# Altium schematic symbol library Linux_Base.SchLib: 20 symbols
Pins are listed as number, name and electrical type; pins without a type are passive.

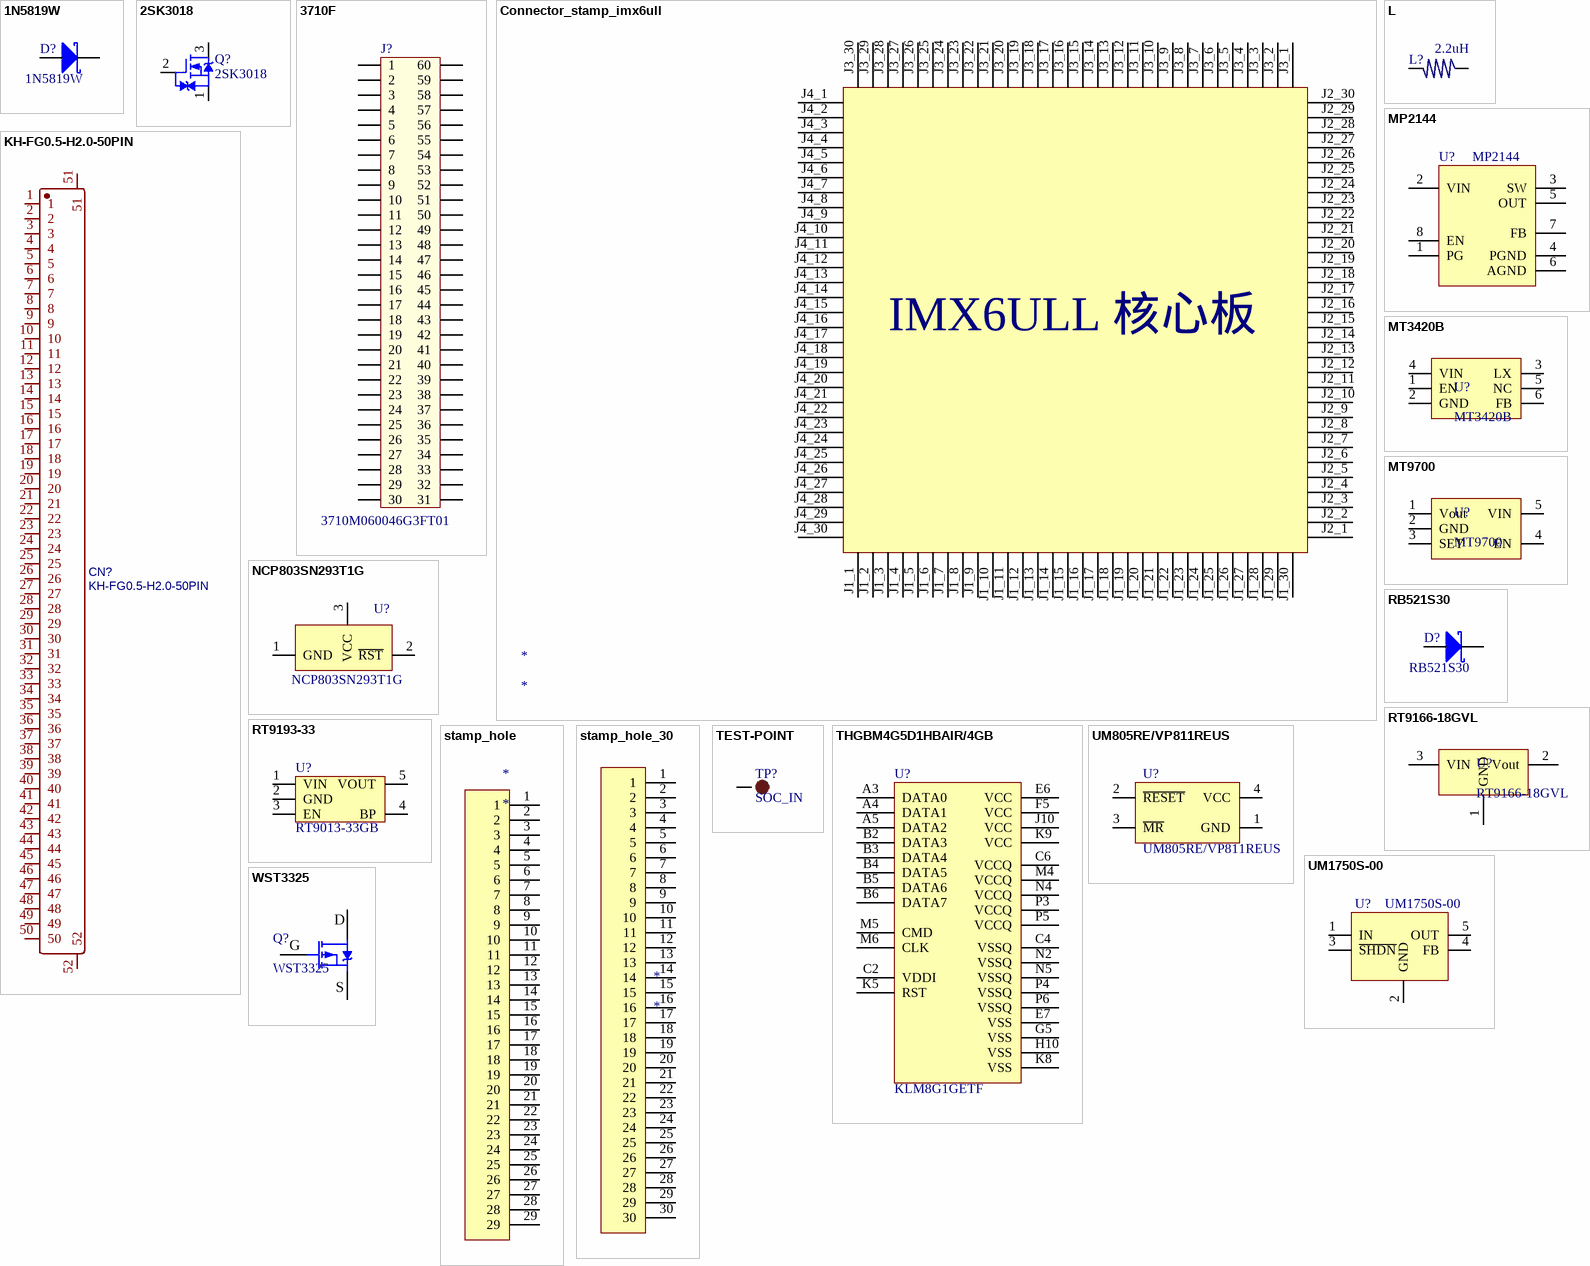
[diagram p0: symbols 1N5819W to WST3325]

## 1N5819W
designator D?
footprint SOD-523
pins: 1 A, 2 C

## 2SK3018
designator Q?
N沟场效应管  30V,0.1A; 版权归属: 源创客; BOM名称: N沟场效应管; 学习资源: www.ooocke.com
footprint SC70-3L (2x2.2x0.9mm(长宽高))
pins: 1 S, 2 G, 3 D

## 3710F
designator J?, comment 3710M060046G3FT01
3710F060046G3FT01
footprint 3710F060046G3FT01 (PIN:0.8mm;SOP;FEMALE)
pins: 1, 2, 3, 4, 5, 6, 7, 8, 9, 10, 11, 12, 13, 14, 15, 16, 17, 18, 19, 20, 21, 22, 23, 24, 25, 26, 27, 28, 29, 30, 31, 32, 33, 34, 35, 36, 37, 38, 39, 40, 41, 42, 43, 44, 45, 46, 47, 48, 49, 50, 51, 52, 53, 54, 55, 56, 57, 58, 59, 60

## Connector_stamp_imx6ull
designator *
footprint Connector_stamp_imx6ull
pins: J1_1 61, J1_2 32, J1_3 33, J1_4 34, J1_5 35, J1_6 36, J1_7 37, J1_8 38, J1_9 39, J1_10 40, J1_11 41, J1_12 42, J1_13 43, J1_14 44, J1_15 45, J1_16 46, J1_17 47, J1_18 48, J1_19 49, J1_20 50, J1_21 51, J1_22 52, J1_23 53, J1_24 54, J1_25 55, J1_26 56, J1_27 57, J1_28 58, J1_29 59, J1_30 60, J2_1 J1_31, J2_2 J1_32, J2_3 J1_33, J2_4 J1_34, J2_5 J1_35, J2_6 J1_36, J2_7 J1_37, J2_8 J1_38, J2_9 J1_39, J2_10 J1_40, J2_11 J1_41, J2_12 J1_42, J2_13 J1_43, J2_14 J1_44, J2_15 J1_45, J2_16 J1_46, J2_17 J1_47, J2_18 J1_48, J2_19 J1_49, J2_20 J1_50, J2_21 J1_51, J2_22 J1_52, J2_23 J1_53, J2_24 J1_54, J2_25 J1_55, J2_26 J1_56, J2_27 J1_57, J2_28 J1_58, J2_29 J1_59, J2_30 J1_60, J3_1 J2_31, J3_2 J2_32, J3_3 J2_33, J3_4 J2_34, J3_5 J2_35, J3_6 J2_36, J3_7 J2_37, J3_8 J2_38, J3_9 J2_39, J3_10 J2_40, J3_11 J2_41, J3_12 J2_42, J3_13 J2_43, J3_14 J2_44, J3_15 J2_45, J3_16 J2_46, J3_17 J2_47, J3_18 J2_48, J3_19 J2_49, J3_20 J2_50, J3_21 J2_51, J3_22 J2_52, J3_23 J2_53, J3_24 J2_54, J3_25 J2_55, J3_26 J2_56, J3_27 J2_57, J3_28 J2_58, J3_29 J2_59, J3_30 J2_60, J4_1 J3_31, J4_2 J3_32, J4_3 J3_33, J4_4 J3_34, J4_5 J3_35, J4_6 J3_36, J4_7 J3_37, J4_8 J3_38, J4_9 J3_39, J4_10 J3_40, J4_11 J3_41, J4_12 J3_42, J4_13 J3_43, J4_14 J3_44, J4_15 J3_45, J4_16 J3_46, J4_17 J3_47, J4_18 J3_48, J4_19 J3_49, J4_20 J3_50, J4_21 J3_51, J4_22 J3_52, J4_23 J3_53, J4_24 J3_54, J4_25 J3_55, J4_26 J3_56, J4_27 J3_57, J4_28 J3_58, J4_29 J3_59, J4_30 J3_60
text: IMX6ULL 核心板

## KH-FG0.5-H2.0-50PIN
designator CN?
BOM_Manufacturer: kinghelm(金航标); Contributor: LCSC; BOM_Supplier: LCSC; BOM_Supplier Part: C2797221; BOM_Manufacturer Part: KH-FG0.5-H2.0-50PIN; BOM_JLCPCB Part Class: Extended Part; spicePre: C; spiceSymbolName: KH-FG0.5-H2.0-50PIN
footprint FPC-SMD_KH-FG0.5-H2.0-50PIN
pins: 1, 2, 3, 4, 5, 6, 7, 8, 9, 10, 11, 12, 13, 14, 15, 16, 17, 18, 19, 20, 21, 22, 23, 24, 25, 26, 27, 28, 29, 30, 31, 32, 33, 34, 35, 36, 37, 38, 39, 40, 41, 42, 43, 44, 45, 46, 47, 48, 49, 50, 51, 52

## L
designator L?, comment 2.2uH
footprint NR3015 (3mm*3mm*1.5mm(长*宽*高）)
pins: 1, 2

## MP2144
designator U?
footprint SOT23-8L
pins: 1 PG, 2 VIN, 3 SW, 4 PGND, 5 OUT, 6 AGND, 7 FB, 8 EN

## MT3420B
designator U?
DCDC
footprint SOT23-6L (3x1.6x1.1mm(长宽高))
pins: 1 EN, 2 GND, 3 LX, 4 VIN, 5 NC, 6 FB

## MT9700
designator U?
负载开关
footprint SOT23-5L
pins: 1 Vout, 2 GND, 3 SET, 4 EN, 5 VIN

## NCP803SN293T1G
designator U?
footprint SOT23-3L (3x1.3x1mm(长宽高))
pins: 1 GND, 2 ~{RST}, 3 VCC

## RB521S30
designator D?
footprint SOD-523
pins: 1 A, 2 C

## RT9166-18GVL
designator U?
Vout = 1.8v LDO
footprint SOT23-3L
pins: 1 GND, 2 Vout, 3 VIN

## RT9193-33
designator U?, comment RT9013-33GB
3.3V超低压差LDO
footprint SOT23-5L (3x1.6x1.1mm(长宽高))
pins: 1 VIN, 2 GND, 3 EN, 4 BP, 5 VOUT

## stamp_hole
designator *
footprint Stamp_hole
pins: 1, 2, 3, 4, 5, 6, 7, 8, 9, 10, 11, 12, 13, 14, 15, 16, 17, 18, 19, 20, 21, 22, 23, 24, 25, 26, 27, 28, 29

## stamp_hole_30
designator *
footprint STAMP_HOLE_30
pins: 1, 2, 3, 4, 5, 6, 7, 8, 9, 10, 11, 12, 13, 14, 15, 16, 17, 18, 19, 20, 21, 22, 23, 24, 25, 26, 27, 28, 29, 30

## TEST-POINT
designator TP?, comment SOC_IN
测试点
footprint TP-1.0 (1.0mm)
pins: 1

## THGBM4G5D1HBAIR/4GB
designator U?, comment KLM8G1GETF
footprint BGA169  EMMC (BGA, 169-Leads, Body 13.0x11.5mm,  Pitch 0.50mm)
pins: A3 DATA0, A4 DATA1, A5 DATA2, B2 DATA3, B3 DATA4, B4 DATA5, B5 DATA6, B6 DATA7, C2 VDDI, C4 VSSQ, C6 VCCQ, E6 VCC, E7 VSS, F5 VCC, G5 VSS, H10 VSS, J10 VCC, K5 RST, K8 VSS, K9 VCC, M4 VCCQ, M5 CMD, M6 CLK, N2 VSSQ, N4 VCCQ, N5 VSSQ, P3 VCCQ, P4 VSSQ, P5 VCCQ, P6 VSSQ

## UM805RE/VP811REUS
designator U?
复位芯片
footprint SOT143
pins: 1 GND, 2 ~{RESET}, 3 ~{MR}, 4 VCC

## UM1750S-00
designator U?
footprint SOT23-5L (3x1.6x1.1mm(长宽高))
pins: 1 IN, 2 GND, 3 ~{SHDN}, 4 FB, 5 OUT

## WST3325
designator Q?
P沟场效应管; 版权归属: 源创客; BOM名称: P沟场效应管; 学习资源: www.ooocke.com
footprint SOT23-3L
pins: 1 G, 2 D, 3 S